# Altium schematic symbol library LM386.Schlib: 1 symbol
Pins are listed as number, name and electrical type; pins without a type are passive.

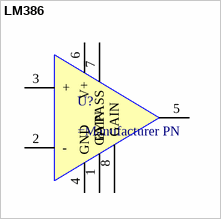
[diagram p0: symbol LM386]

## LM386
designator U?
Audio Amplifier
pins: 1 GAIN, 2 -, 3 +, 4 GND, 5 OUT, 6 V+, 7 BYPASS, 8 GAIN